# Altium footprint library DF9-15P-1V_32.PcbLib: 1 footprints
Each footprint in its own frame and in the unit in brackets; x right, y up, seen from the top. Pads: shape width x height; smd on the part's side, far side on the other; paste and mask are expansions set on the pad; w line width, h text height; cw(c..) or ccw(c..) is an arc to the next point about the centre after c.
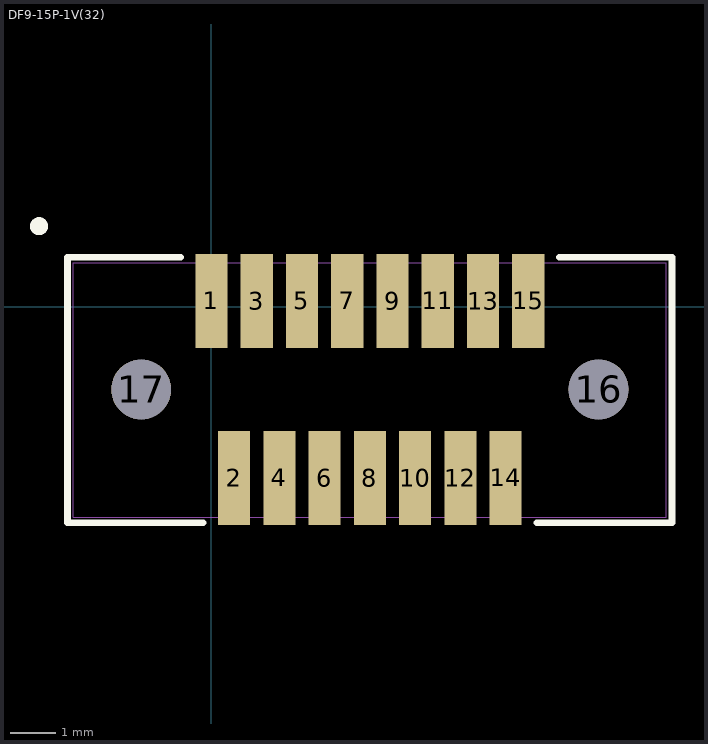
[diagram p0: the footprint, top view; thin cyan lines are the x and y axes]

## DF9-15P-1V(32) [mil]
pads (17):
  rect 28x82 smd: 1(0,5) 2(19.69,-149) 3(39.37,5) 4(59.06,-149) 5(78.74,5) 6(98.43,-149) 7(118.11,5) 8(137.8,-149) 9(157.48,5) 10(177.17,-149) 11(196.85,5) 12(216.54,-149) 13(236.22,5) 14(255.91,-149) 15(275.59,5)
  round 52 hole 52 unplated: 16(336.8,-72) 17(-61.2,-72)
Top Overlay:
  circle w10: c-150,70 r2.84
  lines w6: -27.1,43 -125.2,43 -125.2,-188 -7.41,-188 ; 283.01,-188 400.8,-188 400.8,43 302.69,43
Mechanical 13:
  lines w1: -120.2,-183 395.8,-183 395.8,38 -120.2,38 -120.2,-183
3D body: height 10, standoff 0, extent -10,-5 0,5